# EAGLE library part ICSP (library TRISThis)
Microchip ICSP connector
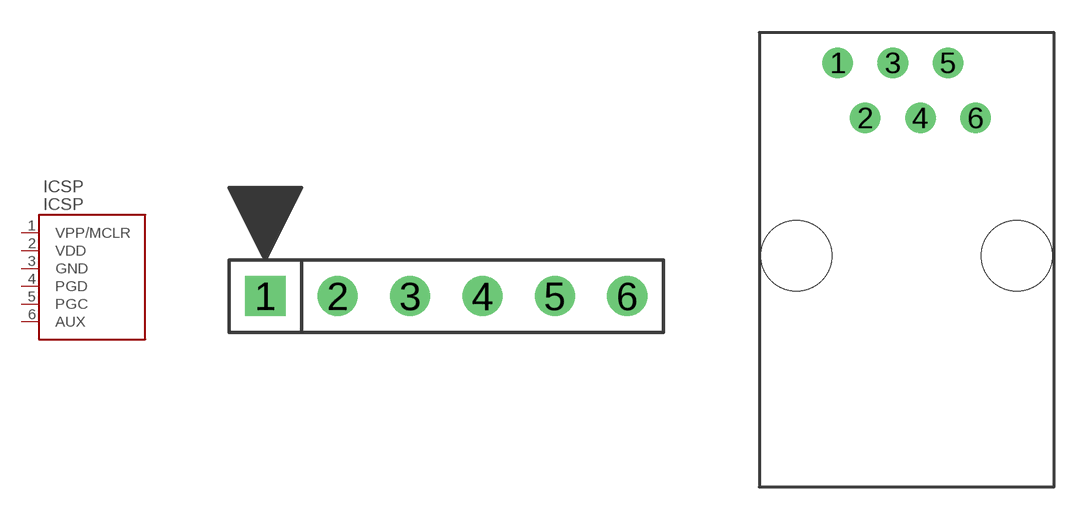
[diagram p5: symbol with the pads of ICSP; footprints ICSP, RJ11]

Designator prefix ICSP

## ICSP0.1_HEADER  [ICSP]
1  VPP/MCLR  pwr
2  VDD  pwr
3  GND  pwr
4  PGD
5  PGC
6  AUX

## ICSPRJ11  [RJ11]
Pads as for ICSP

## ICSPTC2030  [TC2030]
Pads as for ICSP

## Footprint ICSP (pad centres in mm)
drill 0.9 square: 1 -6.35,0
drill 0.9 round: 2 -3.81,0; 3 -1.27,0; 4 1.27,0; 5 3.81,0; 6 6.35,0

## Footprint RJ11 (pad centres in mm)
Molex 5520250-3 Digi-Key A31406-ND Height 0.635"
drill 0.9 round: 1 -3.175,8.89; 2 -1.905,6.35; 3 -0.635,8.89; 4 0.635,6.35; 5 1.905,8.89; 6 3.175,6.35
hole 3.251 at -5.08,0
hole 3.251 at 5.08,0

## Footprint TC2030 (pad centres in mm)
TC2030-MCP
drill 0.8 pad 0.889 round: 1 -1.27,-0.635; 2 -1.27,0.635; 3 0,-0.635; 4 0,0.635; 5 1.27,-0.635; 6 1.27,0.635
hole 0.95 at -2.54,0
hole 0.95 at 2.54,1.016
hole 0.95 at 2.54,-1.016
hole 2.375 at -2.54,2.54
hole 2.375 at -2.54,-2.54
hole 2.375 at 0.635,-2.54
hole 2.375 at 0.635,2.54